# Altium footprint library 220uf.PcbLib: 1 footprints
Each footprint in its own frame and in the unit in brackets; x right, y up, seen from the top. Pads: shape width x height; smd on the part's side, far side on the other; paste and mask are expansions set on the pad; w line width, h text height; cw(c..) or ccw(c..) is an arc to the next point about the centre after c.
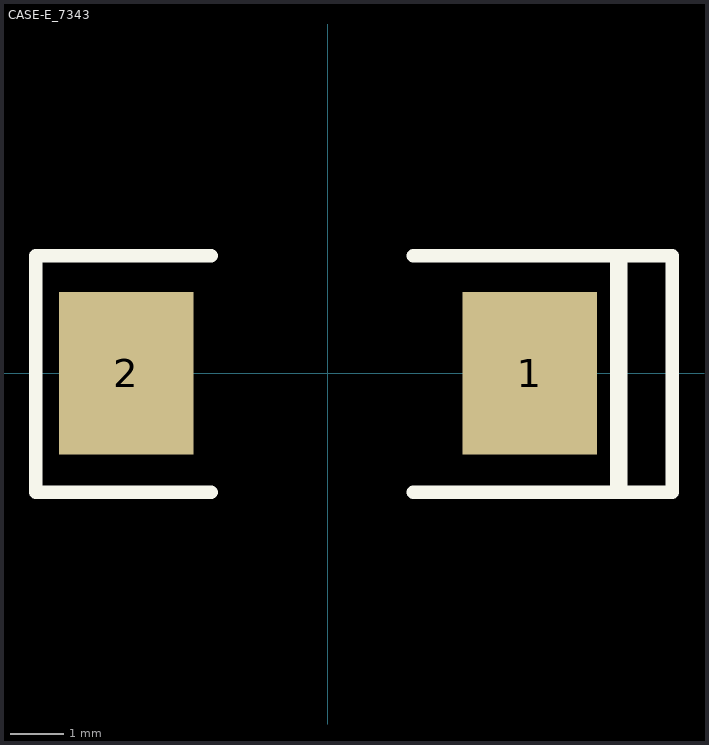
[diagram p0: the footprint, top view; thin cyan lines are the x and y axes]

## CASE-E_7343 [mil]
pads (2):
  rect 98.42x118.5 smd: 1(147.5,0) 2(-147.5,0)
Top Overlay:
  lines w10: -85.5,-87 -213.5,-87 -213.5,86 -85.5,86 ; 62.5,-87 62.2,-87 251.5,-87 251.5,86 187.4,86 62.2,86 62.5,86
  lines w13: 212.5,-85 212.5,84.29